# Altium schematic symbol library Micrel Power Management.SchLib: 1 symbol
Pins are listed as number, name and electrical type; pins without a type are passive.

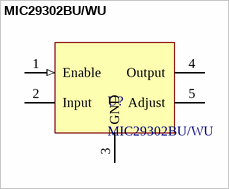
[diagram p0: symbol MIC29302BU/WU]

## MIC29302BU/WU
designator U?
3A LDO Linear Regulator
footprint TO-263-5
pins: 1 Enable (in), 2 Input (power), 3 GND (power), 4 Output (power), 5 Adjust